# EAGLE library part 189-009-613R571 (library connectors)
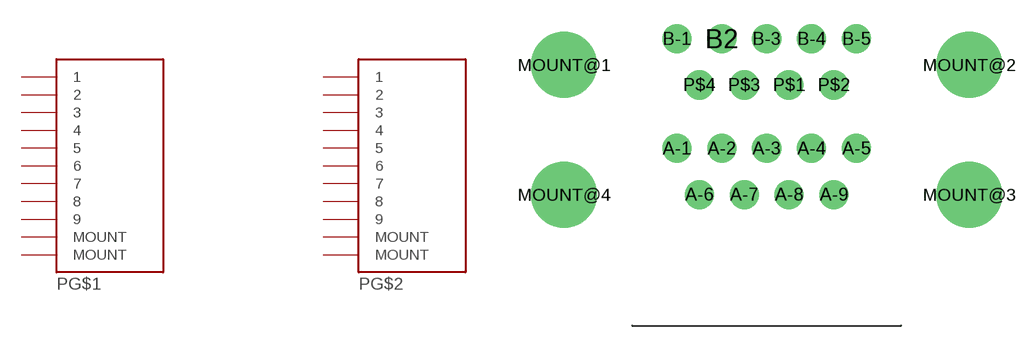
[diagram p2: symbol with the pads of 189-009-613R571; footprint 189-009-613R571]

Designator prefix P; gates G$1=GENERIC-DB9 G$2=GENERIC-DB9

## 189-009-613R571  [189-009-613R571]
A-1  G$1:1
A-2  G$1:2
A-3  G$1:3
A-4  G$1:4
A-5  G$1:5
A-6  G$1:6
A-7  G$1:7
A-8  G$1:8
A-9  G$1:9
B2  G$2:5
B-1  G$2:1
B-3  G$2:2
B-4  G$2:3
B-5  G$2:4
MOUNT@1  G$1:MOUNT
MOUNT@2  G$1:MOUNT
MOUNT@3  G$2:MOUNT
MOUNT@4  G$2:MOUNT
P$1  G$2:6
P$2  G$2:7
P$3  G$2:8
P$4  G$2:9

## Footprint 189-009-613R571 (pad centres in mm)
drill 1.194: A-1 -5.537,0; A-2 -2.769,0; A-3 0,0; A-4 2.769,0; A-5 5.537,0; A-6 -4.153,-2.845; A-7 -1.384,-2.845; A-8 1.384,-2.845; A-9 4.153,-2.845; B2 -2.769,6.756; B-1 -5.537,6.756; B-3 0,6.756; B-4 2.769,6.756; B-5 5.537,6.756; P$1 1.384,3.912; P$2 4.153,3.912; P$3 -1.384,3.912; P$4 -4.153,3.912
drill 3.048: MOUNT@1 -12.497,5.156; MOUNT@2 12.497,5.156; MOUNT@3 12.497,-2.845; MOUNT@4 -12.497,-2.845